# Altium footprint library surface.PcbLib: 50 footprints (part 1 of 4)
Each footprint in its own frame and in the unit in brackets; x right, y up, seen from the top. Pads: shape width x height; smd on the part's side, far side on the other; paste and mask are expansions set on the pad; w line width, h text height; cw(c..) or ccw(c..) is an arc to the next point about the centre after c.
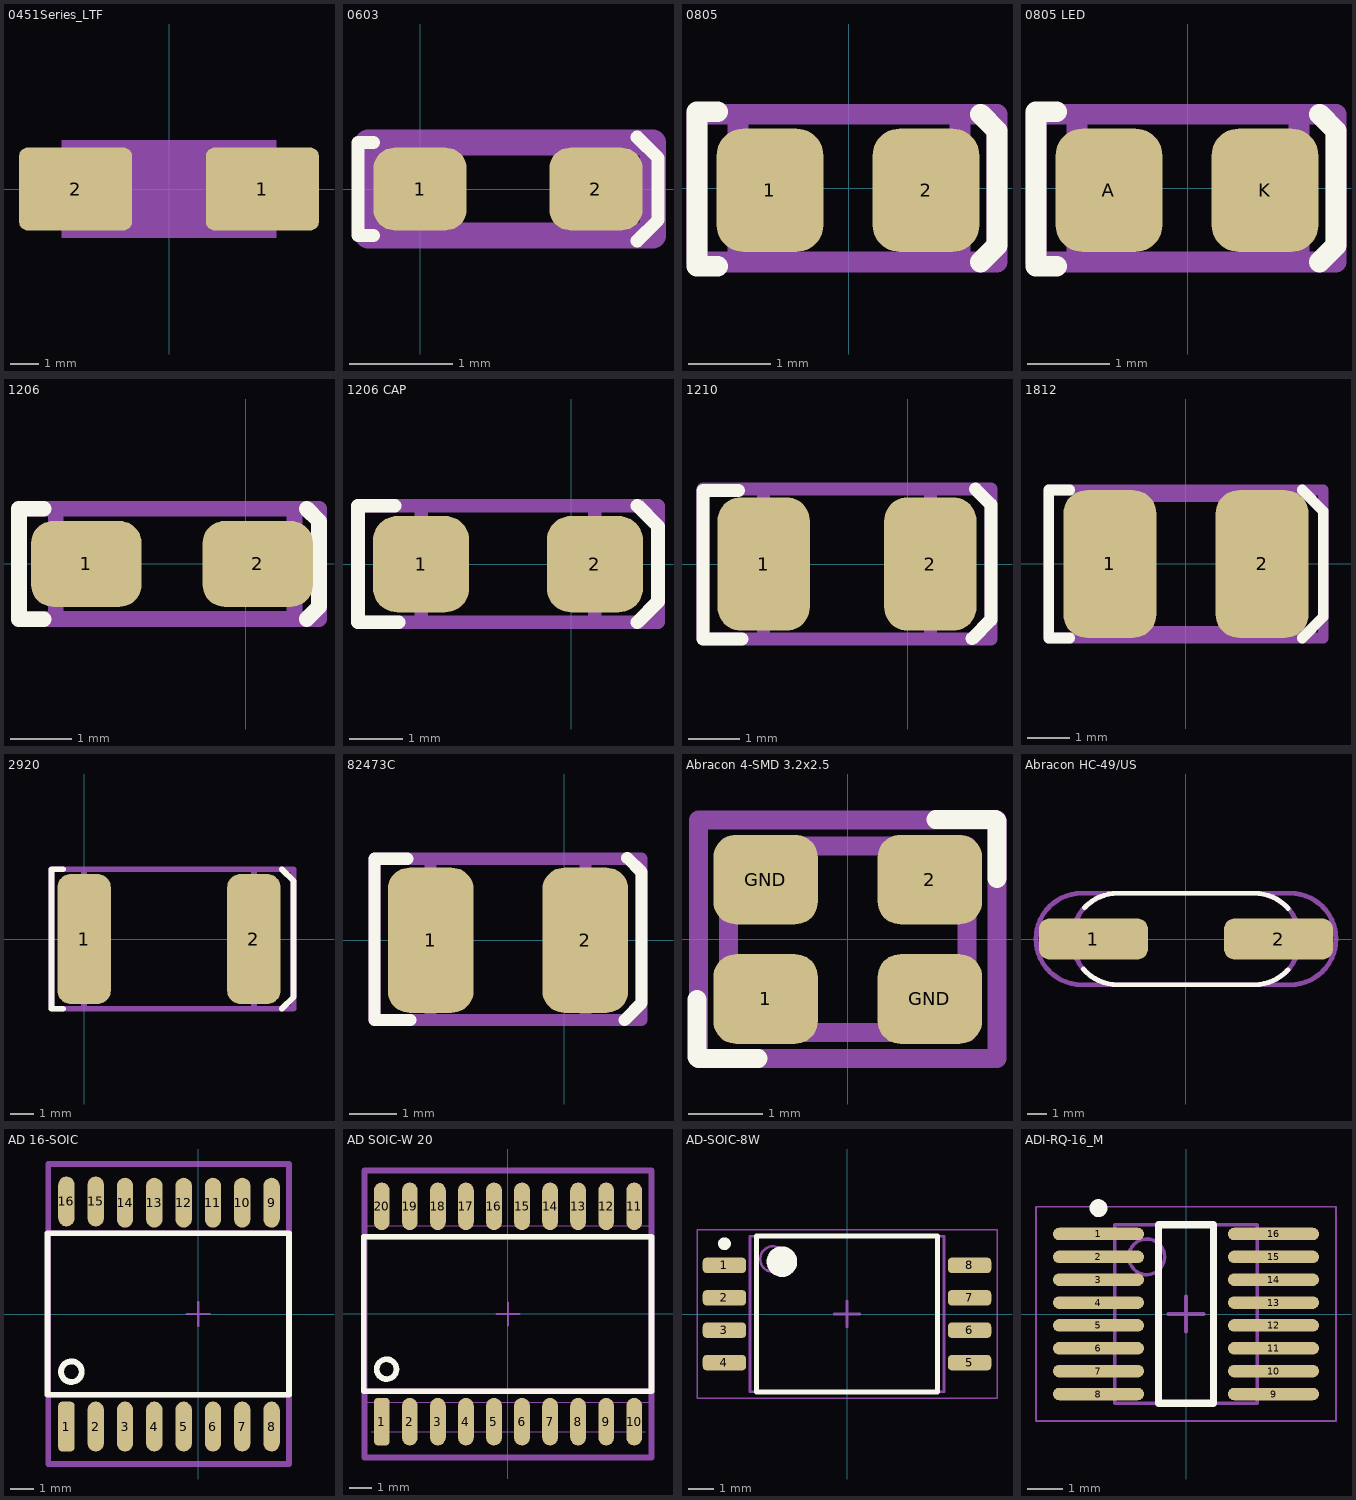
[diagram p0: the footprints below, top view; thin cyan lines are the x and y axes]

## 0451Series_LTF [mm]
pads (2):
  rrect20% 4x2.921 smd paste+0 mask+0: 1(3.3,0) 2(-3.3,0)
Mechanical 5:
  region: 3.785,-1.727 -3.785,-1.727 -3.785,1.727 3.785,1.727
Mechanical 13:
  lines w0.025: -1.6,-1.346 -1.6,1.346 ; 1.6,-1.346 1.6,1.346 ; -3.048,-1.346 3.048,-1.346 3.048,1.346 -3.048,1.346 -3.048,-1.346
Mechanical 15:
  region: 3.658,-1.6 -3.658,-1.6 -3.658,1.6 3.658,1.6
  lines w0.152: -3.658,-1.6 -3.658,1.6 3.658,1.6 3.658,-1.6 -3.658,-1.6
3D body "0451Series_LTF.step": height 2.69, standoff 0, extent -3.048,-1.346 3.048,1.346

## 0603 [mm]
pads (2):
  rrect50% 0.9x0.8 smd: 1(0,0) 2(1.7,0)
Top Overlay:
  lines w0.127: -0.45,-0.45 -0.6,-0.45 -0.6,0.45 -0.45,0.45 ; 2.1,-0.5 2.3,-0.3 2.3,0.3 2.1,0.5
Mechanical 13:
  lines w0.254: 0,-0.45 0,0.45 1.75,0.45 1.75,-0.45 0,-0.45
Mechanical 15:
  lines w0.254: -0.5,-0.45 -0.5,0.45 2.25,0.45 2.25,-0.45 -0.5,-0.45
3D body "res_0603.stp": height 0.6, standoff 0, extent 0.05,-0.425 1.65,0.425

## 0805 [mm]
pads (2):
  rrect50% 1.3x1.5 smd: 1(-0.962,-0.026) 2(0.938,-0.026)
Top Overlay:
  lines w0.254: -1.6,-0.95 -1.85,-0.95 -1.85,0.929 -1.6,0.929 ; 1.6,-0.9 1.802,-0.698 1.802,0.698 1.6,0.9
Mechanical 13:
  lines w0.254: -1.35,-0.9 1.35,-0.9 1.35,0.9 -1.35,0.9 -1.35,-0.9
Mechanical 15:
  lines w0.254: -1.85,-0.9 -1.85,0.9 1.8,0.9 1.8,-0.9 -1.85,-0.9
3D body "0805.step": height 0.73, standoff -0.03, extent -1,-0.655 1,0.655

## 0805 LED [mm]
pads (2):
  rrect50% 1.3x1.5 smd: A(-0.962,-0.026) K(0.938,-0.026)
Top Overlay:
  lines w0.254: -1.6,-0.95 -1.85,-0.95 -1.85,0.929 -1.6,0.929 ; 1.6,-0.9 1.802,-0.698 1.802,0.698 1.6,0.9
Mechanical 13:
  lines w0.254: -1.35,-0.9 1.35,-0.9 1.35,0.9 -1.35,0.9 -1.35,-0.9
Mechanical 15:
  lines w0.254: -1.85,-0.9 -1.85,0.9 1.8,0.9 1.8,-0.9 -1.85,-0.9
3D body "LED SMD 0805.step": height 1, standoff 0, extent -1.09,-0.625 0.91,0.625

## 1206 [mm]
pads (2):
  rrect50% 1.8x1.4 smd: 1(-2.6,0) 2(0.2,0)
Top Overlay:
  lines w0.254: -3.3,-0.903 -3.7,-0.903 -3.7,0.9 -3.3,0.9 ; 1,-0.9 1.2,-0.7 1.2,0.7 1,0.9
Mechanical 13:
  lines w0.254: -3.1,-0.9 -3.1,0.9 0.8,0.9 0.8,-0.9 -3.1,-0.9
Mechanical 15:
  lines w0.254: -3.7,-0.9 -3.7,0.9 1.2,0.9 1.2,-0.9 -3.7,-0.9
3D body "F93-A.step": height 1.85, standoff 0, extent -2.902,-0.902 0.502,0.902

## 1206 CAP [mm]
pads (2):
  rrect50% 1.8x1.8 smd: 1(-2.81,0) 2(0.44,0)
Top Overlay:
  lines w0.254: -3.3,1.09 -3.99,1.09 -3.99,-1.09 -3.23,-1.09 ; 1.235,-1.085 1.62,-0.7 1.62,0.71 1.235,1.095
Mechanical 13:
  lines w0.254: -2.81,-1.09 0.44,-1.09 0.44,1.09 -2.81,1.09 -2.81,-1.09
Mechanical 15:
  lines w0.254: -3.99,-1.09 -3.99,1.09 1.62,1.09 1.62,-1.09 -3.99,-1.09
3D body "Ceramic_Capacitor_1206_h63mil.step": height 1.61, standoff 0.01, extent -2.75,-0.79 0.45,0.81

## 1210 [mm]
pads (2):
  rrect50% 1.8x2.6 smd: 1(-2.81,0) 2(0.44,0)
Top Overlay:
  lines w0.254: -3.3,1.43 -3.99,1.43 -3.99,-1.46 -3.23,-1.46 ; 1.255,-1.455 1.62,-1.09 1.62,1.16 1.32,1.46
Mechanical 13:
  lines w0.254: -2.81,-1.46 -2.81,1.46 0.44,1.46 0.44,-1.46 -2.81,-1.46
Mechanical 15:
  lines w0.254: -3.99,-1.46 1.62,-1.46 1.62,1.46 -3.99,1.46 -3.99,-1.46
3D body "Ceramic_Capacitor_1210_h99mil.step": height 2.51, standoff 0.01, extent -2.77,-1.26 0.43,1.24

## 1812 [mm]
pads (2):
  rrect50% 2.2x3.5 smd: 1(-1.8,0) 2(1.8,0)
Top Overlay:
  lines w0.254: -2.75,-1.75 -3.25,-1.75 -3.25,1.75 -2.75,1.75 ; 2.75,-1.75 3.25,-1.25 ; 2.75,1.75 3.25,1.25 ; 3.25,-1.25 3.25,1.25 ; 3.25,-1.25 3.25,-1.25 ; 3.25,1.25 3.25,1.25
Mechanical 13:
  lines w0.254: -2.25,-1.6 -2.25,1.6 2.25,1.6 2.25,-1.6 -2.25,-1.6
Mechanical 15:
  lines w0.254: -3.25,-1.75 3.25,-1.75 3.25,1.75 -3.25,1.75 -3.25,-1.75
3D body "RLS-126-R--3DModel-STEP-1.STEP": height 2.5, standoff -0.1, extent -2.25,-1.6 2.25,1.6

## 2920 [mm]
pads (2):
  rrect50% 2.3x5.6 smd: 1(0,0) 2(7.3,0)
Top Overlay:
  lines w0.254: -0.9,-3 -1.4,-3 -1.4,3 -0.9,3 ; 8.5,-3 9,-2.5 9,2.5 8.5,3
Mechanical 13:
  lines w0.254: 0,-3 7.3,-3 7.3,3 0,3 0,-3
Mechanical 15:
  lines w0.254: -1.4,-3 9,-3 9,3 -1.4,3 -1.4,-3
3D body "0ZCF.step": height 1.14, standoff 0, extent -0.338,-2.807 7.638,2.807

## 82473C [mm]
pads (2):
  rrect50% 1.8x3.05 smd: 1(-2.81,0) 2(0.44,0)
Top Overlay:
  lines w0.254: -3.3,1.71 -3.99,1.71 -3.99,-1.68 -3.23,-1.68 ; 1.265,-1.675 1.62,-1.32 1.62,1.43 1.32,1.73
Mechanical 13:
  lines w0.254: -2.81,-1.68 0.44,-1.68 0.44,1.71 -2.81,1.71 -2.81,-1.68
Mechanical 15:
  lines w0.254: -3.99,-1.68 -3.99,1.71 1.62,1.71 1.62,-1.68 -3.99,-1.68
3D body: height 2, standoff 0, extent -2.81,-1.25 0.446,1.26

## Abracon 4-SMD 3.2x2.5 [mm]
pads (4):
  rrect50% 1.4x1.2 smd: 1(-1.1,-0.8) 2(1.1,0.8) GND(-1.1,0.8) GND(1.1,-0.8)
Top Overlay:
  lines w0.254: -2.021,-0.805 -2.021,-1.579 -2,-1.6 -1.2,-1.6 ; 1.179,1.608 1.979,1.608 2,1.587 2,0.813
Mechanical 13:
  lines w0.254: -1.6,-1.25 1.6,-1.25 1.6,1.25 -1.6,1.25 -1.6,-1.25
Mechanical 15:
  lines w0.254: -2,-1.6 -2,1.6 2,1.6 2,-1.6 -2,-1.6
3D body: height 0.8, standoff 0, extent -1.6,-1.25 1.6,1.25

## Abracon HC-49/US [mm]
pads (2):
  rrect50% 5.6x2.1 smd: 1(-4.75,0) 2(4.75,0)
Top Overlay:
  lines w0.254: -5.265,-1.55 ccw(c-3.5,0) -3.5,-2.349 ; -5.204,1.618 cw(c-3.5,0) -3.5,2.349 3.5,2.35 cw(c3.5,0) 5.246,1.572 ; -3.526,-2.349 3.526,-2.349 ccw(c3.5,0) 5.237,-1.582
Mechanical 13:
  lines w0.254: -3.526,-2.349 3.526,-2.349 ; -3.5,-2.349 cw(c-3.5,0) -3.5,2.349 3.5,2.35 cw(c3.5,0) 3.5,-2.349
Mechanical 15:
  lines w0.254: -5.35,-2.349 cw(c-5.35,0) -5.35,2.35 5.35,2.35 cw(c5.35,0) 5.35,-2.349 -5.35,-2.349
3D body "ABLS.STEP": height 4.06, standoff -0.1, extent -6.35,-2.349 6.35,2.35

## AD 16-SOIC [mil]
pads (16):
  rrect50% 28x85 smd: 1(-225,-192.02)
  oval 28x85 smd: 2(-175,-192.02) 3(-125,-192.02) 4(-75,-192.02) 5(-25,-192.02) 6(25,-192.02) 7(75,-192.02) 8(125,-192.02) 9(125,190) 10(75,189.96) 11(25,189.96) 12(-25,189.96) 13(-75,189.96) 14(-125,189.96) 15(-175,191.98) 16(-225,191.98)
Top Overlay:
  circle w10: c-216.54,-98.43 r17.61
  lines w10: -257,-137.8 -257,137.8 155,137.8 155,-137.8 -257,-137.8
Mechanical 13:
  lines w10: -255.91,-137.8 155,-137.8 155,137.8 -255.91,137.8 -255.91,-137.8
Mechanical 15:
  lines w3.94: -20,0 0,0 ; 0,-20 0,0 ; 0,20 0,0 ; 20,0 0,0
  lines w10: -255.91,-255.91 -255.91,255.91 155,255.91 155,-255.91 -255.91,-255.91
3D body "RW_16.step": height 104.09, standoff 0, extent -256.5,-209.48 156.5,209.49

## AD SOIC-W 20 [mil]
height 68.9
pads (20):
  rrect50% 28x85 smd: 1(-225,-192.02)
  oval 28x85 smd: 2(-175,-192.02) 3(-125,-192.02) 4(-75,-192.02) 5(-25,-192.02) 6(25,-192.02) 7(75,-192.02) 8(125,-192.02) 9(175,-192.02) 10(225,-192.02) 11(225,192.02) 12(175,191.98) 13(125,191.98) 14(75,191.98) 15(25,191.98) 16(-25,191.98) 17(-75,191.98) 18(-125,191.98) 19(-175,191.98) 20(-225,191.98)
Top Overlay:
  circle w10: c-216.54,-98.43 r17.61
  lines w10: -257,-137.8 -257,137.8 256,137.8 256,-137.8 -257,-137.8
Mechanical 1:
  lines w1: -244,-210.06 245,-210.06
  lines w1.97: -259.83,-157.29 -259.83,157.25 260,157.25 260,-157.29 -259.83,-157.29
Mechanical 13:
  lines w10: -255.91,-137.8 255.91,-137.8 255.91,137.8 -255.91,137.8 -255.91,-137.8
Mechanical 15:
  lines w3.94: -20,0 0,0 ; 0,-20 0,0 ; 0,20 0,0 ; 20,0 0,0
  lines w10: -255.91,-255.91 -255.91,255.91 255.91,255.91 255.91,-255.91 -255.91,-255.91
3D body "SOW-Leg.STEP": height 72.99, standoff 0, extent 214.76,148.6 235.24,210.02
3D body "SOW-Leg.STEP": height 72.99, standoff 0, extent 164.76,148.6 185.24,210.02
3D body "SOW-Leg.STEP": height 72.99, standoff 0, extent 214.76,-210.02 235.24,-148.6
3D body "SOW-Leg.STEP": height 72.99, standoff 0, extent 164.76,-210.02 185.24,-148.6
3D body "SOW-Leg.STEP": height 72.99, standoff 0, extent 114.76,-210.02 135.24,-148.6
3D body "SOW-Leg.STEP": height 72.99, standoff 0, extent 64.76,-210.02 85.24,-148.6
3D body "SOW-Leg.STEP": height 72.99, standoff 0, extent 14.76,-210.02 35.24,-148.6
3D body "SOW-Leg.STEP": height 72.99, standoff 0, extent -35.24,-210.02 -14.76,-148.6
3D body "SOW-Leg.STEP": height 72.99, standoff 0, extent -85.24,-210.02 -64.76,-148.6
3D body "SOW-Leg.STEP": height 72.99, standoff 0, extent -135.24,-210.02 -114.76,-148.6
3D body "SOW-Leg.STEP": height 72.99, standoff 0, extent -185.24,-210.02 -164.76,-148.6
3D body "SOW-Leg.STEP": height 72.99, standoff 0, extent -235.24,-210.02 -214.76,-148.6
3D body "SO20W-Body.STEP": height 104.72, standoff 10.63, extent -259.83,-157.27 259.85,157.27
3D body "SOW-Leg.STEP": height 72.99, standoff 0, extent 114.76,148.56 135.24,209.98
3D body "SOW-Leg.STEP": height 72.99, standoff 0, extent 64.76,148.56 85.24,209.98
3D body "SOW-Leg.STEP": height 72.99, standoff 0, extent 14.76,148.56 35.24,209.98
3D body "SOW-Leg.STEP": height 72.99, standoff 0, extent -35.24,148.56 -14.76,209.98
3D body "SOW-Leg.STEP": height 72.99, standoff 0, extent -85.24,148.56 -64.76,209.98
3D body "SOW-Leg.STEP": height 72.99, standoff 0, extent -135.24,148.56 -114.76,209.98
3D body "SOW-Leg.STEP": height 72.99, standoff 0, extent -185.24,148.56 -164.76,209.98
3D body "SOW-Leg.STEP": height 72.99, standoff 0, extent -235.24,148.56 -214.76,209.98

## AD-SOIC-8W [mm]
height 2.65
pads (8):
  rrect50% 1.7x0.6 smd: 1(-4.8,1.905) 2(-4.8,0.635) 3(-4.8,-0.635) 4(-4.8,-1.905) 5(4.8,-1.905) 6(4.8,-0.635) 7(4.8,0.635) 8(4.8,1.905)
Top Overlay:
  circle w0.25: c-4.8,2.755 r0.125
  circle w0.6: c-2.55,2.05 r0.3
  lines w0.2: -3.55,-3.05 -3.55,3.05 3.55,3.05 3.55,-3.05 -3.55,-3.05
Mechanical 13:
  circle w0.1: c-2.9,2.15 r0.5
  lines w0.1: -3.8,-3.05 -3.8,3.05 3.8,3.05 3.8,-3.05 -3.8,-3.05
Mechanical 15:
  lines w0.05: -5.875,-3.3 -5.875,3.3 5.875,3.3 5.875,-3.3 -5.875,-3.3
  lines w0.1: -0.5,0 0.5,0 ; 0,-0.5 0,0.5
3D body "AD-SOIC-8W.step": height 2.65, standoff 0, extent -5.155,-3.05 5.155,3.05

## ADI-RQ-16_M [mm] "SOP, 16-Leads, Body 4.9x3.9mm, Pitch 0.64mm, IPC Low Density"
height 1.75
pads (16):
  oval 2.55x0.35 smd: 1(-2.45,2.24) 2(-2.45,1.6) 3(-2.45,0.96) 4(-2.45,0.32) 5(-2.45,-0.32) 6(-2.45,-0.96) 7(-2.45,-1.6) 8(-2.45,-2.24) 9(2.45,-2.24) 10(2.45,-1.6) 11(2.45,-0.96) 12(2.45,-0.32) 13(2.45,0.32) 14(2.45,0.96) 15(2.45,1.6) 16(2.45,2.24)
Top Overlay:
  circle w0.25: c-2.45,2.965 r0.125
  lines w0.2: -0.775,-2.5 0.775,-2.5 0.775,2.5 -0.775,2.5 -0.775,-2.5
Mechanical 13:
  circle w0.1: c-1.1,1.6 r0.5
  lines w0.1: -2,-2.5 2,-2.5 2,2.5 -2,2.5 -2,-2.5
Mechanical 15:
  lines w0.05: -4.2,-3 4.2,-3 4.2,3 -4.2,3 -4.2,-3
  lines w0.1: -0.5,0 0.5,0 ; 0,-0.5 0,0.5
3D body: height 1.75, standoff 0.1, extent -2,-2.5 2,2.5